# Altium schematic symbol library TPS73533DRVT.SchLib: 1 symbol
Pins are listed as number, name and electrical type; pins without a type are passive.

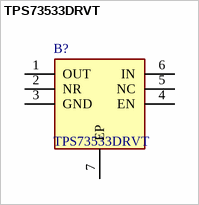
[diagram p0: symbol TPS73533DRVT]

## TPS73533DRVT
designator B?
500mA 3.3V Low IQ/Noise LDO Reg. WSON6EP TPS73533DRVT, Low Dropout Voltage Regulator, 500mA, 1  4.3 V +/-1%, 6-Pin SON; Manufacturer_Name: Texas Instruments; Geometry.Height: 0.8mm; Mouser Part Number: 595-TPS73533DRVT; Mouser Price/Stock: https://www.mouser.co.uk/ProductDetail/Texas-Instruments/TPS73533DRVT?qs=IDSsxkoac0yfD47GOItrRw%3D%3D; Manufacturer_Part_Number: TPS73533DRVT; Datasheet Link: http://www.ti.com/lit/ds/symlink/tps735.pdf
footprint SON65P200X200X80-7N
pins: 1 OUT, 2 NR, 3 GND, 4 EN, 5 NC, 6 IN, 7 EP